# Altium schematic symbol library COAX-RF.SchLib: 1 symbol
Pins are listed as number, name and electrical type; pins without a type are passive.

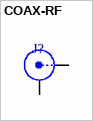
[diagram p0: symbol COAX-RF]

## COAX-RF
designator J?  (value not drawn)
pins: 1 Sig, 2 GND